# Altium footprint library Capacitors.PcbLib: 25 footprints (part 2 of 2)
Each footprint in its own frame and in the unit in brackets; x right, y up, seen from the top. Pads: shape width x height; smd on the part's side, far side on the other; paste and mask are expansions set on the pad; w line width, h text height; cw(c..) or ccw(c..) is an arc to the next point about the centre after c.
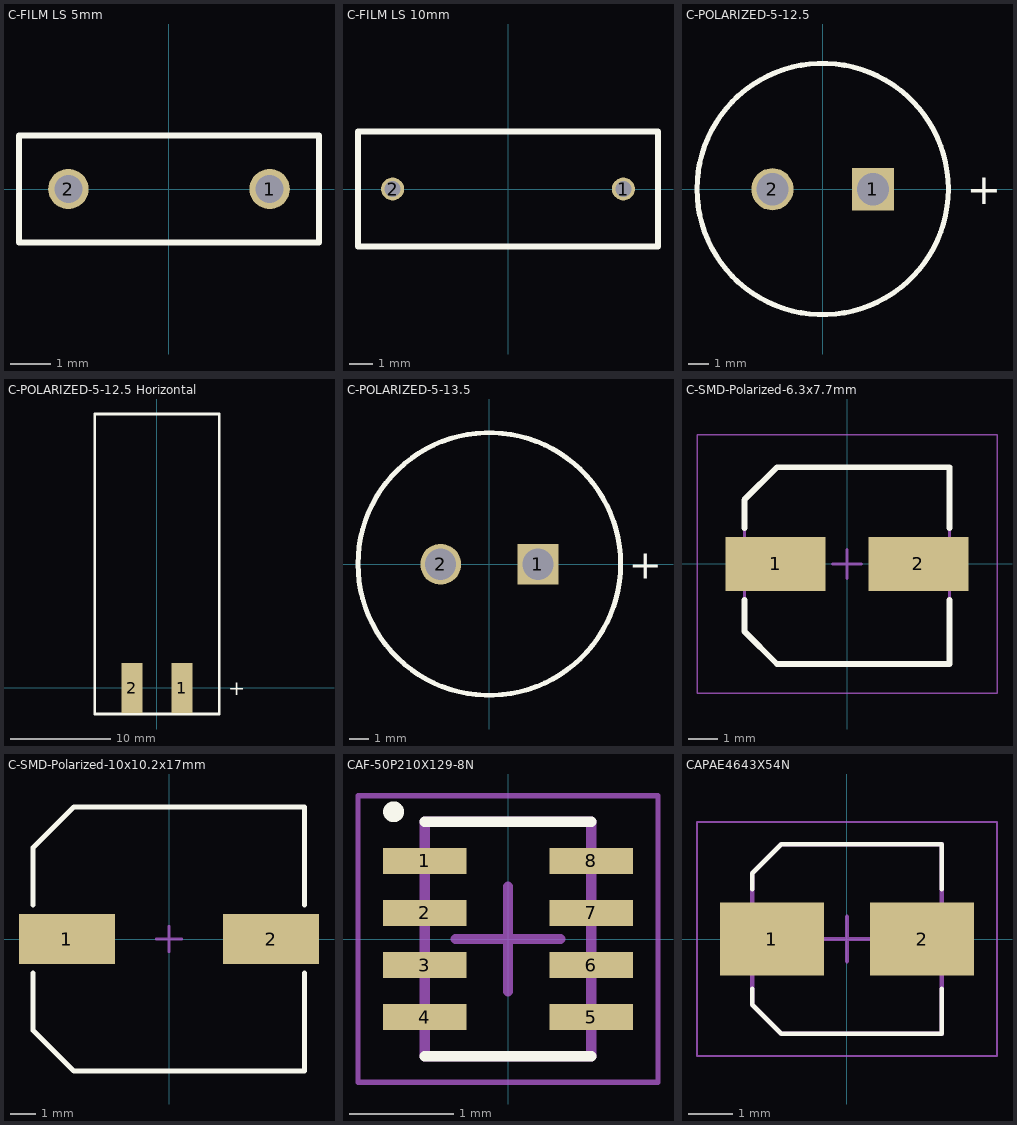
[diagram p1: the footprints below, top view; thin cyan lines are the x and y axes]

## C-FILM LS 5mm [mm] "KEMET 5MM LS Film Capacitor"
height 8.3
pads (2):
  round 1 hole 0.7: 1(2.5,0) 2(-2.5,0)
Top Overlay:
  lines w0.15: -3.726,-1.327 3.726,-1.327 3.726,1.327 -3.726,1.327 -3.726,-1.327
3D body "Kemet Film Capacitor P5mm v4.step": height 7, standoff -3.5, extent -3.598,-1.247 3.598,1.247

## C-FILM LS 10mm [mm] "KEMET 10MM LS Film Capacitor"
height 8.3
pads (2):
  round 1 hole 0.7: 1(5,0) 2(-5,0)
Top Overlay:
  lines w0.254: -6.5,-2.498 6.5,-2.498 6.5,2.498 -6.5,2.498 -6.5,-2.498
3D body "Kemet Film Capacitor P10mm v5.step": height 11, standoff -3.5, extent -6.5,-2.498 6.5,2.498

## C-POLARIZED-5-12.5 [mm] "Through-hole Capacitor"
height 8.3
pads (2):
  rect 2.1x2.1 hole 1.6: 1(2.5,-0.012)
  round 2.1 hole 1.6: 2(-2.5,-0.012)
Top Overlay:
  circle w0.254: c0,0 r6.25
  text "+" at 7.17,-0.75 h1.5
3D body "Aluminum_electrolytic_capacitor_radial_D12.5_H20_PinD0.6_Pitch5_nominal_black.step": height 20.1, standoff -2.9, extent -6.25,-6.247 6.25,6.247

## C-POLARIZED-5-12.5 Horizontal [mm] "Flat Mount Through-hole Capacitor"
height 8.3
pads (2):
  rect 2.1x5 smd: 1(2.5,-0.012) 2(-2.5,-0.012)
Top Overlay:
  lines w0.254: -6.24,-2.61 6.26,-2.61 6.26,27.48 -6.24,27.48 -6.24,-2.61
  text "+" at 7.17,-0.75 h1.5
3D body "Aluminum_electrolytic_capacitor_radial_D12.5_H20_PinD0.6_Pitch5_nominal_black v5 side.step": height 12.82, standoff 0, extent -6.25,-2.57 6.25,27.43

## C-POLARIZED-5-13.5 [mm] "Through-hole Supercapacitor"
height 8.3
pads (2):
  rect 2.1x2.1 hole 1.6: 1(2.5,-0.012)
  round 2.1 hole 1.6: 2(-2.5,-0.012)
Top Overlay:
  circle w0.254: c0,0 r6.75
  text "+" at 7.17,-0.75 h1.5

## C-SMD-Polarized-6.3x7.7mm [mm] "Aluminum Electrolytic Capacitor, Body 2.20x6.60x7.70mm, IPC Low Density"
height 7.7
pads (2):
  rect 3.4x1.85 smd: 1(-2.425,0) 2(2.425,0)
Top Overlay:
  lines w0.2: -3.49,-1.225 -3.49,-2.29 -2.38,-3.4 3.49,-3.4 3.49,-1.225 ; -3.49,1.225 -3.49,2.18 -2.38,3.29 3.49,3.29 3.49,1.225
3D Bodies:
  lines w0.1: -3.49,-2.29 -3.49,2.18 -2.38,3.29 3.49,3.29 3.49,-3.4 -2.38,-3.4 -3.49,-2.29
Mechanical 15:
  lines w0.05: -5.1,-4.4 5.1,-4.4 5.1,4.4 -5.1,4.4 -5.1,-4.4
  lines w0.1: -0.5,0 0.5,0 ; 0,-0.5 0,0.5
3D body "SMD Aluminum Electrolytic 47uF Nichicon v10.step": height 7.7, standoff 0, extent -3.5,-3.3 3.5,3.3

## C-SMD-Polarized-10x10.2x17mm [mm] "Aluminum Electrolytic Capacitor, IPC Low Density"
height 7.7
pads (2):
  rect 3.8x2 smd: 1(-4.05,0) 2(4.05,0)
Top Overlay:
  lines w0.2: -5.386,-1.349 -5.386,-3.63 -3.771,-5.245 5.369,-5.245 5.369,-1.349 ; -5.386,1.349 -5.386,3.63 -3.771,5.245 5.369,5.245 5.369,1.349
Mechanical 15:
  lines w0.1: -0.5,0 0.5,0 ; 0,-0.5 0,0.5
3D body "EEV-EB2E100Q SMD Electrolytic v1.step": height 16.5, standoff 0, extent -5.85,-5.15 5.85,5.15

## CAF-50P210X129-8N [mm] "Chip Array, Flat, 8-Leads, Pitch 0.50mm,  Body 2.10x1.30mm,  IPC Medium Density"
height 0.94
pads (8):
  rect 0.8x0.25 smd mask+0: 1(-0.8,0.75) 2(-0.8,0.25) 3(-0.8,-0.25) 4(-0.8,-0.75) 5(0.8,-0.75) 6(0.8,-0.25) 7(0.8,0.25) 8(0.8,0.75)
Top Overlay:
  circle w0.1: c-1.098,1.221 r0.05
  lines w0.1: -0.8,-1.125 0.8,-1.125 ; -0.8,1.125 0.8,1.125
3D Bodies:
  lines w0.1: -0.8,-1.125 -0.8,1.125 0.8,1.125 0.8,-1.125 -0.8,-1.125
Mechanical 15:
  lines w0.05: -1.44,-1.375 -1.44,1.375 1.44,1.375 1.44,-1.375 -1.44,-1.375
  lines w0.1: -0.5,0 0.5,0 ; 0,-0.5 0,0.5
3D body "CAF-50P210X129-8N v2.step": height 0.94, standoff 0, extent -0.775,-1.125 0.775,1.125

## CAPAE4643X54N [mm] "Aluminum Electrolytic Capacitor, Body 4.30x4.30x5.40mm, IPC Medium Density"
height 5.4
pads (2):
  rect 2.35x1.65 smd: 1(-1.7,0) 2(1.7,0)
Top Overlay:
  lines w0.1: -2.15,-1.125 -2.15,-1.488 -1.488,-2.15 2.15,-2.15 2.15,-1.125 ; -2.15,1.125 -2.15,1.488 -1.488,2.15 2.15,2.15 2.15,1.125
3D Bodies:
  lines w0.1: -2.15,-1.488 -2.15,1.488 -1.488,2.15 2.15,2.15 2.15,-2.15 -1.488,-2.15 -2.15,-1.488
Mechanical 15:
  lines w0.05: -3.4,-2.65 3.4,-2.65 3.4,2.65 -3.4,2.65 -3.4,-2.65
  lines w0.1: -0.5,0 0.5,0 ; 0,-0.5 0,0.5
3D body "CAPAE4643X54N v1.step": height 5.45, standoff 0, extent -2.3,-2.15 2.3,2.15